# Altium schematic symbol library temperature_transducers.SchLib: 6 symbols
Pins are listed as number, name and electrical type; pins without a type are passive.

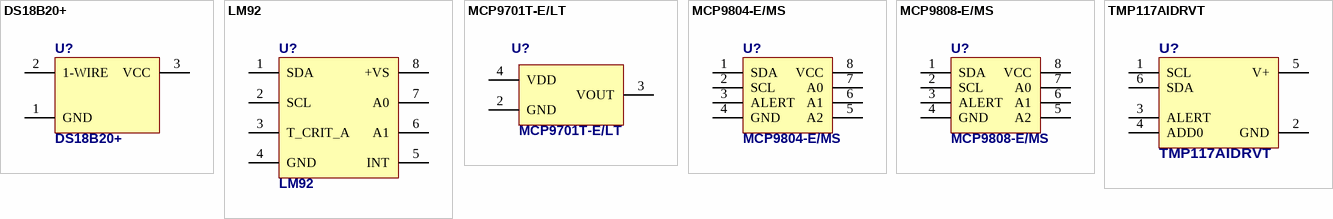
[diagram p0: symbols DS18B20+ to TMP117AIDRVT]

## DS18B20+
designator U?
DS18B20+ (TO92) 1-Wire Digital Thermometer
footprint TO-92A
footprint TO-92B
footprint TO-92C
footprint TO-92D
pins: 1 GND, 2 1-WIRE, 3 VCC

## LM92
designator U?
±0.33°C Accurate, 12-Bit + Sign Temperature Sensor and Thermal Window Comparator with Two-Wire Interface; Published: 19-Feb-2006; PackageReference: SO8
footprint SO8 (Small Outline; 8 Leads; Body Width 3.7 mm; Pitch 1.27 mm)
pins: 1 SDA, 2 SCL, 3 T_CRIT_A, 4 GND (power), 5 INT, 6 A1, 7 A0, 8 +VS (power)

## MCP9701T-E/LT
designator U?
Low-Power Linear Active Thermistor IC
footprint SOT-323-5 (SOT-353, SC70-5) (SOT-353/SC-88A; 5 Leads; Body 2.2 x 2.2 mm, inc. leads (LxW max))
pins: 2 GND, 3 VOUT, 4 VDD

## MCP9804-E/MS
designator U?
+/- 0.25C Digital Temperature Sensor; Supplier 1: Farnell; Supplier Part Number 1: 1825061
footprint MSOP8
pins: 1 SDA, 2 SCL, 3 ALERT, 4 GND (power), 5 A2, 6 A1, 7 A0, 8 VCC

## MCP9808-E/MS
designator U?
+/- 0.5C Digital Temperature Sensor; Supplier 1: TME; Supplier 2: Farnell; Supplier Part Number 1: MCP9808-E/MS; Supplier Part Number 2: 2080523
footprint MSOP8
pins: 1 SDA, 2 SCL, 3 ALERT, 4 GND (power), 5 A2, 6 A1, 7 A0, 8 VCC

## TMP117AIDRVT
designator U?
High-Accuracy, Low-Power, Digital Temperature Sensor With SMBus™- and I2C-Compatible Interface
footprint WSON6_DRV_2x2
pins: 1 SCL, 2 GND, 3 ALERT, 4 ADD0, 5 V+, 6 SDA